# Altium footprint library FLS ADC_A.PcbLib: 26 footprints (part 2 of 2)
Each footprint in its own frame and in the unit in brackets; x right, y up, seen from the top. Pads: shape width x height; smd on the part's side, far side on the other; paste and mask are expansions set on the pad; w line width, h text height; cw(c..) or ccw(c..) is an arc to the next point about the centre after c.
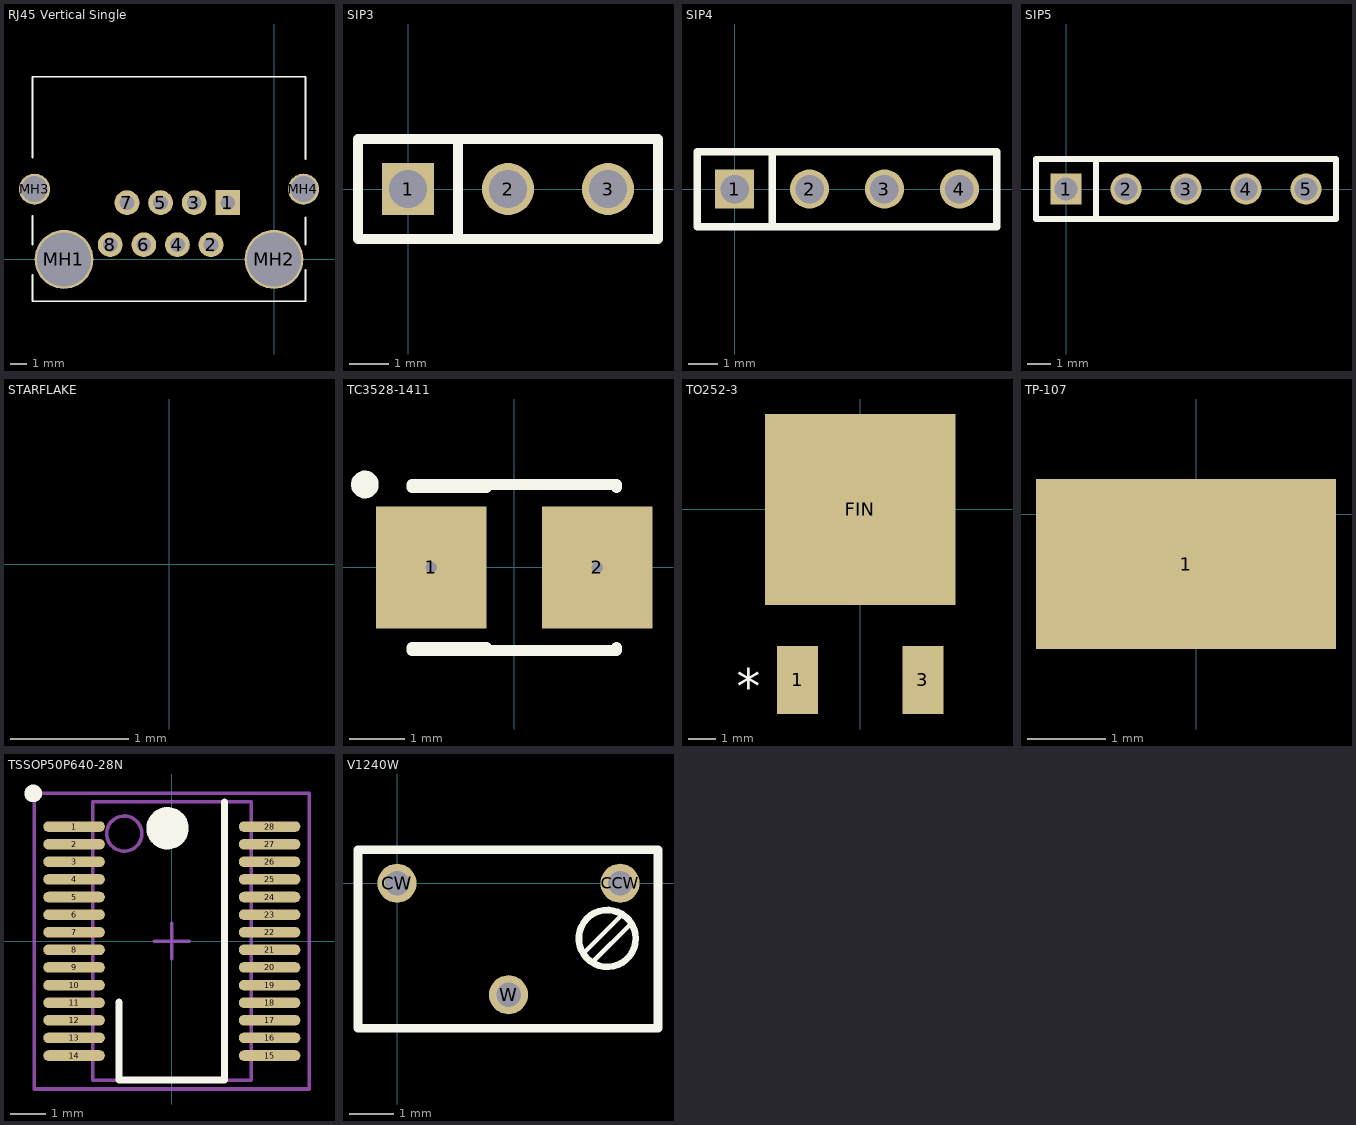
[diagram p1: the footprints below, top view; thin cyan lines are the x and y axes]

## RJ45 Vertical Single [mil] "RJHSE-3380"
height 625
pads (12):
  rect 59.05x59.05 hole 35: 1(-110,135)
  round 59.05 hole 35: 2(-150,35) 3(-190,135) 4(-230,35) 5(-270,135) 6(-310,35) 7(-350,135) 8(-390,35)
  round 140 hole 128 unplated: MH1(-500,0) MH2(0,0)
  round 74 hole 62: MH3(-570,167) MH4(70,167)
Top Overlay:
  lines w4: -575,-37 -575,-100 75,-100 75,-25 ; -575,35 -575,101 -575,104 ; -575,242 -575,435 75,435 75,238 ; 75,35 75,100

## SIP3 [mil] "SIP Header"
height 5
pads (3):
  rect 52x52 hole 38: 1(0,0)
  round 52 hole 38: 2(100,0) 3(200,0)
Top Overlay:
  lines w10: 50,-50 50,50 ; -50,-50 -50,50 250,50 250,-50 -50,-50

## SIP4 [mil]
pads (4):
  rect 52x52 hole 38: 1(0,0)
  round 52 hole 38: 2(100,0) 3(200,0) 4(300,0)
Top Overlay:
  lines w10: 50,-50 50,50 ; -50,-50 350,-50 350,50 -50,50 -50,-50
3D body: height 450, standoff 0, extent -55,-55 355,55

## SIP5 [mil]
height 250
pads (5):
  rect 52x52 hole 38: 1(0,0)
  round 52 hole 38: 2(100,0) 3(200,0) 4(300,0) 5(400,0)
Top Overlay:
  lines w10: 50,-50 50,50 ; -50,-50 -50,50 450,50 450,-50 -50,-50

## STARFLAKE [mm]
height 1.2
Multi-Layer:
  lines w0.203: -1.27,0 -0.762,0 ; -1.016,-0.254 -0.762,0 ; -1.016,0.254 -0.762,0 ; -0.762,-0.762 -0.254,-0.254 ; -0.762,0.762 -0.254,0.254 ; -0.508,0 0,0 ; -0.254,-1.016 0,-0.762 ; -0.254,1.016 0,0.762 ; 0,-1.27 0,-0.762 ; 0,-0.508 0,0 ; 0,0.508 0,0 ; 0,1.27 0,0.762 ; 0.254,-1.016 0,-0.762 ; 0.254,-0.254 0.762,-0.762 ; 0.254,0.254 0.762,0.762 ; 0.254,1.016 0,0.762 ; 0.508,0 0,0 ; 1.016,-0.254 0.762,0 ; 1.016,0.254 0.762,0 ; 1.27,0 0.762,0

## TC3528-1411 [mm]
height 15
pads (2):
  rect 2x2.2 / inner rect 2x2.2 / far side rect 0.508x0.508 hole 0.203: 1(-1.5,0) 2(1.5,0)
Top Overlay:
  circle w0.25: c-2.7,1.5 r0.125
  lines w0.2: -1.85,-1.5 1.85,-1.5 1.85,-1.45 ; -1.85,-1.45 -0.5,-1.45 ; -1.85,1.45 -0.5,1.45 ; -1.85,1.5 1.85,1.5 1.85,1.45

## TO252-3 [mm] "Rohm TO252-3"
height 2.5
pads (3):
  rect 1.5x2.5 smd: 1(-2.3,-6.25) 3(2.3,-6.25)
  rect 7x7 smd: FIN(0,0)
Top Overlay:
  text "*" at -4.521,-7.112 h1.27
Mechanical 1:
  text "*" at -4.521,-7.112 h1.27
  text "100" at 0,0 h1.27

## TP-107 [mil]
height 66.93
pads (1):
  rect 150x85 smd: 1(-5,-25)

## TSSOP50P640-28N [mm] "TSSOP, 28-Leads, Body 7.8x4.4mm, Pitch 0.5mm, IPC Medium Density"
height 1.2
pads (28):
  oval 1.75x0.3 smd: 1(-2.775,3.25) 2(-2.775,2.75) 3(-2.775,2.25) 4(-2.775,1.75) 5(-2.775,1.25) 6(-2.775,0.75) 7(-2.775,0.25) 8(-2.775,-0.25) 9(-2.775,-0.75) 10(-2.775,-1.25) 11(-2.775,-1.75) 12(-2.775,-2.25) 13(-2.775,-2.75) 14(-2.775,-3.25) 15(2.775,-3.25) 16(2.775,-2.75) 17(2.775,-2.25) 18(2.775,-1.75) 19(2.775,-1.25) 20(2.775,-0.75) 21(2.775,-0.25) 22(2.775,0.25) 23(2.775,0.75) 24(2.775,1.25) 25(2.775,1.75) 26(2.775,2.25) 27(2.775,2.75) 28(2.775,3.25)
Top Overlay:
  circle w0.25: c-3.935,4.191 r0.125
  circle w0.6: c-0.122,3.2 r0.3
  lines w0.2: -1.5,-1.727 -1.5,-3.95 1.5,-3.95 1.5,3.95
Mechanical 13:
  circle w0.1: c-1.35,3.05 r0.5
  lines w0.1: -2.25,-3.95 -2.25,3.95 2.25,3.95 2.25,-3.95 -2.25,-3.95
Mechanical 15:
  lines w0.1: -0.5,0 0.5,0 ; 0,-0.5 0,0.5 ; -3.9,-4.2 -3.9,4.2 3.9,4.2 3.9,-4.2 -3.9,-4.2
3D body: height 1.2, standoff 0, extent -2.25,-3.95 2.25,3.95

## V1240W [mil]
pads (3):
  round 35 hole 22: CCW(200,0) CW(0,0) W(100,-100)
Top Overlay:
  circle w6: c188.5,-49.5 r25.5
  lines w4: 168.5,-61.5 201.5,-28.5 ; 175.5,-70.5 209.5,-36.5
  lines w8: -35,-130 234,-130 234,30 -35,30 -35,-130
3D body: height 0, standoff 0, extent -39,-134 238,34